# Altium schematic symbol library LedDriver.SchLib: 2 symbols
Pins are listed as number, name and electrical type; pins without a type are passive.

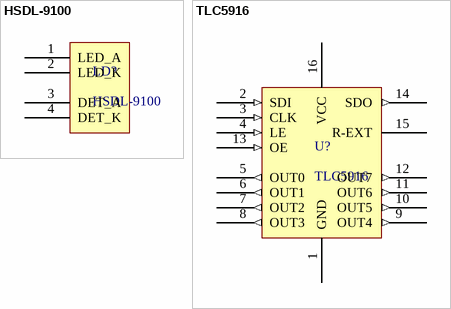
[diagram p0: symbols HSDL-9100 to TLC5916]

## HSDL-9100
designator LD?
Surface-Mount Proximity Sensor
footprint HSDL-9100 (Surface-Mount Proximity Sensor)
pins: 1 LED_A, 2 LED_K, 3 DET_A, 4 DET_K

## TLC5916
designator U?
8-BIT CONSTANT-CURRENT LED SINK DRIVERS
footprint SOP16
pins: 1 GND (power), 2 SDI (in), 3 CLK (in), 4 LE (in), 5 OUT0 (out), 6 OUT1 (out), 7 OUT2 (out), 8 OUT3 (out), 9 OUT4 (out), 10 OUT5 (out), 11 OUT6 (out), 12 OUT7 (out), 13 OE (in), 14 SDO (out), 15 R-EXT, 16 VCC (power)